# EAGLE library part TMUX1511PWR (library SamacSys_Parts)
Low-capacitance, 1:1 (SPST) 4-channel, powered-off protection switch with 1.8-V logic Source: Datasheet <http://www.ti.com/lit/ds/symlink/tmux1511.pdf>
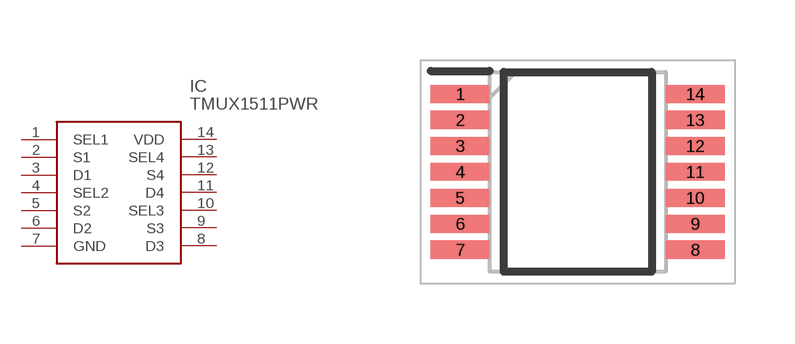
[diagram p45: symbol with the pads of SOP65P640X120-14N; footprint SOP65P640X120-14N]

Designator prefix IC

## TMUX1511PWR (DESCRIPTION: Low-capacitance, 1:1 (SPST) 4-channel, powered-off protection switch with 1.8-V logic; HEIGHT: 1.2mm; MANUFACTURER_NAME: Texas Instruments; MANUFACTURER_PART_NUMBER: TMUX1511PWR; MOUSER_PART_NUMBER: 595-TMUX1511PWR; MOUSER_PRICE-STOCK: https://www.mouser.co.uk/ProductDetail/Texas-Instruments/TMUX1511PWR?qs=qSfuJ%252Bfl%2Fd5zYDGvtvg4tg%3D%3D)  [SOP65P640X120-14N]
1  SEL1
2  S1
3  D1
4  SEL2  in
5  S2
6  D2
7  GND  pwr
8  D3
9  S3
10  SEL3  in
11  D4
12  S4
13  SEL4  in
14  VDD  pwr

## Footprint SOP65P640X120-14N (pad centres in mm)
14-Pin TSSOP-ren1
smd 1.475 x 0.45: 1 -2.938,1.95; 2 -2.938,1.3; 3 -2.938,0.65; 4 -2.938,0; 5 -2.938,-0.65; 6 -2.938,-1.3; 7 -2.938,-1.95; 8 2.938,-1.95; 9 2.938,-1.3; 10 2.938,-0.65; 11 2.938,0; 12 2.938,0.65; 13 2.938,1.3; 14 2.938,1.95